# Altium footprint library 6sot23.PcbLib: 1 footprints
Each footprint in its own frame and in the unit in brackets; x right, y up, seen from the top. Pads: shape width x height; smd on the part's side, far side on the other; paste and mask are expansions set on the pad; w line width, h text height; cw(c..) or ccw(c..) is an arc to the next point about the centre after c.
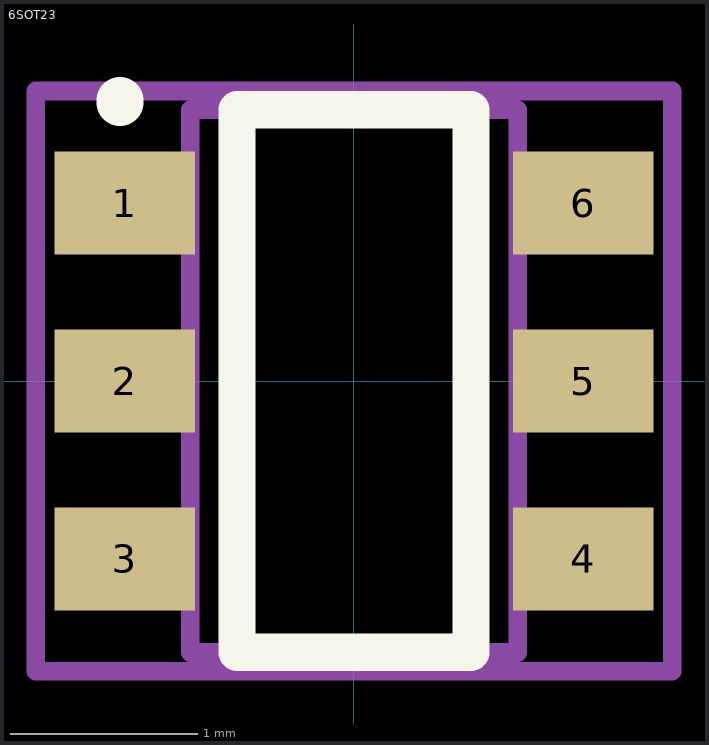
[diagram p0: the footprint, top view; thin cyan lines are the x and y axes]

## 6SOT23 [mm] "SOT23, 6-Leads, Body 2.9x2.8mm (max), Pitch 0.95mm, IPC High Density"
height 1
pads (6):
  rect 0.75x0.55 smd: 1(-1.225,0.95) 2(-1.225,0) 3(-1.225,-0.95) 4(1.225,-0.95) 5(1.225,0) 6(1.225,0.95)
Top Overlay:
  lines w0.2: -0.625,-1.45 -0.625,1.45 0.625,1.45 0.625,-1.45 -0.625,-1.45
  lines w0.25: -1.251,1.487 ccw(c-1.375,1.5) -1.25,1.5
Top 3D Body:
  lines w0.1: -0.875,-1.45 0.875,-1.45 0.875,1.45 -0.875,1.45 -0.875,-1.45
Top Courtyard:
  lines w0.1: -1.7,-1.55 1.7,-1.55 1.7,1.55 -1.7,1.55 -1.7,-1.55
Top Designator (Mech17):
  text ".Designator" at -0.225,1.15 h1.27
3D body "User Library-SOT-23-6-1.STEP": height 1.46, standoff 0, extent -1.5,-1.5 1.5,1.5